# EAGLE library part PINHEADER (library PINHEADER)
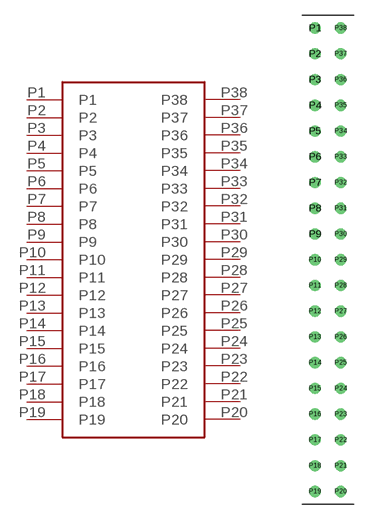
[diagram p0: symbol with the pads of PINHEADER; footprint PINHEADER]

Designator prefix -

## PINHEADER  [PINHEADER]
P1  P1
P2  P2
P3  P3
P4  P4
P5  P5
P6  P6
P7  P7
P8  P8
P9  P9
P10  P10
P11  P11
P12  P12
P13  P13
P14  P14
P15  P15
P16  P16
P17  P17
P18  P18
P19  P19
P20  P20
P21  P21
P22  P22
P23  P23
P24  P24
P25  P25
P26  P26
P27  P27
P28  P28
P29  P29
P30  P30
P31  P31
P32  P32
P33  P33
P34  P34
P35  P35
P36  P36
P37  P37
P38  P38

## Footprint PINHEADER (pad centres in mm)
drill 0.6 pad 1.02: P1 -1.27,22.86; P2 -1.27,20.32; P3 -1.27,17.78; P4 -1.27,15.24; P5 -1.27,12.7; P6 -1.27,10.16; P7 -1.27,7.62; P8 -1.27,5.08; P9 -1.27,2.54; P10 -1.27,0; P11 -1.27,-2.54; P12 -1.27,-5.08; P13 -1.27,-7.62; P14 -1.27,-10.16; P15 -1.27,-12.7; P16 -1.27,-15.24; P17 -1.27,-17.78; P18 -1.27,-20.32; P19 -1.27,-22.86; P20 1.27,-22.86; P21 1.27,-20.32; P22 1.27,-17.78; P23 1.27,-15.24; P24 1.27,-12.7; P25 1.27,-10.16; P26 1.27,-7.62; P27 1.27,-5.08; P28 1.27,-2.54; P29 1.27,0; P30 1.27,2.54; P31 1.27,5.08; P32 1.27,7.62; P33 1.27,10.16; P34 1.27,12.7; P35 1.27,15.24; P36 1.27,17.78; P37 1.27,20.32; P38 1.27,22.86